# Altium schematic symbol library CCD.SchLib: 2 symbols
Pins are listed as number, name and electrical type; pins without a type are passive.

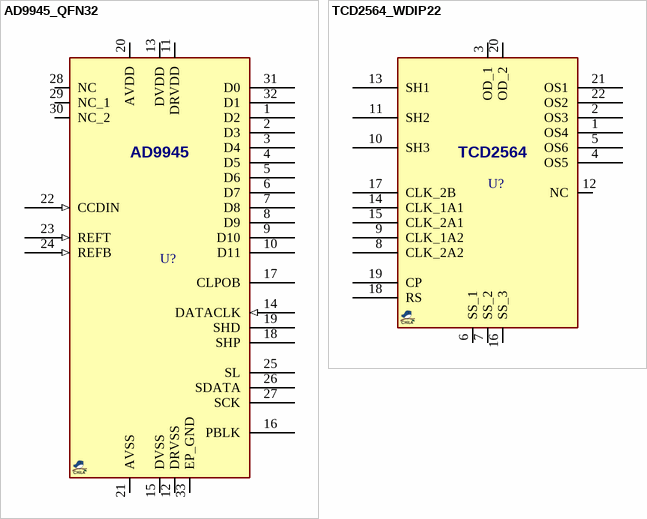
[diagram p0: symbols AD9945_QFN32 to TCD2564_WDIP22]

## AD9945_QFN32
designator U?, comment AD9945  (value not drawn)
CCD Processor, 12-Bit, 40MHz; MANF: Analog Devices; MANF_P#: AD9945KCPZ; PARAM2: 3v; PARAM: 3wire, 40Msps,; PRICE: 11$; VALUE: AD9945
footprint QFN50_32T (QFN-32, RGJ, 5X5mm, 0.5mm)
pins: 1 D2, 2 D3, 3 D4, 4 D5, 5 D6, 6 D7, 7 D8, 8 D9, 9 D10, 10 D11, 11 DRVDD (power), 12 DRVSS (power), 13 DVDD (power), 14 DATACLK (in), 15 DVSS (power), 16 PBLK, 17 CLPOB, 18 SHP, 19 SHD, 20 AVDD (power), 21 AVSS (power), 22 CCDIN (in), 23 REFT (in), 24 REFB (in), 25 SL, 26 SDATA, 27 SCK, 28 NC, 29 NC_1, 30 NC_2, 31 D0, 32 D1, 33 EP_GND (power)

## TCD2564_WDIP22
designator U?, comment TCD2564  (value not drawn)
CCD Image sensor; MANF: Toshiba; MANF_P#: TCD2564DG; PARAM2: 10VCC; PARAM: 5400 elements x 3 lines; PRICE: 11$; VALUE: TCD2564
footprint WDIP_22 (Footprint not found)
pins: 1 OS4, 2 OS3, 3 OD_1, 4 OS5, 5 OS6, 6 SS_1, 7 SS_2, 8 CLK_2A2, 9 CLK_1A2, 10 SH3, 11 SH2, 12 NC, 13 SH1, 14 CLK_1A1, 15 CLK_2A1, 16 SS_3, 17 CLK_2B, 18 RS, 19 CP, 20 OD_2, 21 OS1, 22 OS2